# EAGLE library part DC/DC-WANDLER (library DC--DC Wandler - DIL24)
Name des Bauteiles: DC / DC Wandler Daten: 18-36V/+5V/ 7,5W , DIP24 / 1,5kV / Eff. 79% Artikelnummer:#201205 Datenblatt:
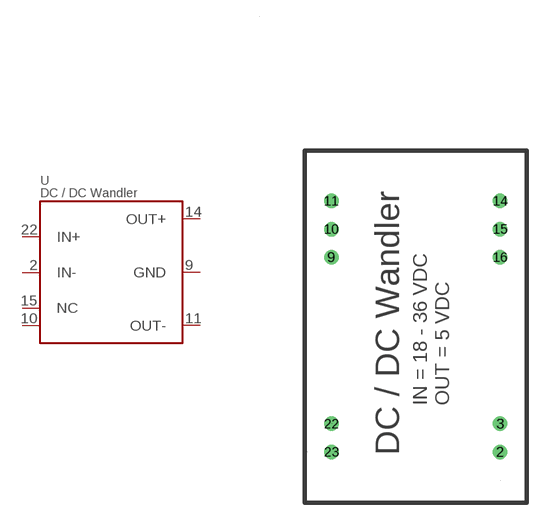
[diagram p0: symbol with the pads of DIP24; footprint DIP24]

Designator prefix U

## DC/DC-WANDLERTHT  [DIP24]
2  IN-
3  IN-1
9  GND
10
11  OUT-
14  OUT+
15  NC
16  GND1
22  IN+
23  IN+1

## Footprint DIP24 (pad centres in mm)
drill 0.8: 2 6.6,-10.2; 3 6.6,-7.66; 9 -8.64,7.38; 10 -8.64,9.92; 11 -8.64,12.46; 14 6.6,12.46; 15 6.6,9.92; 16 6.6,7.38; 22 -8.6,-7.66; 23 -8.6,-10.2